# EAGLE library part MOUDLE-NEW_MOUDLE-GPS-L70-HARDWARE (library openautopihat)
L70 GPS module
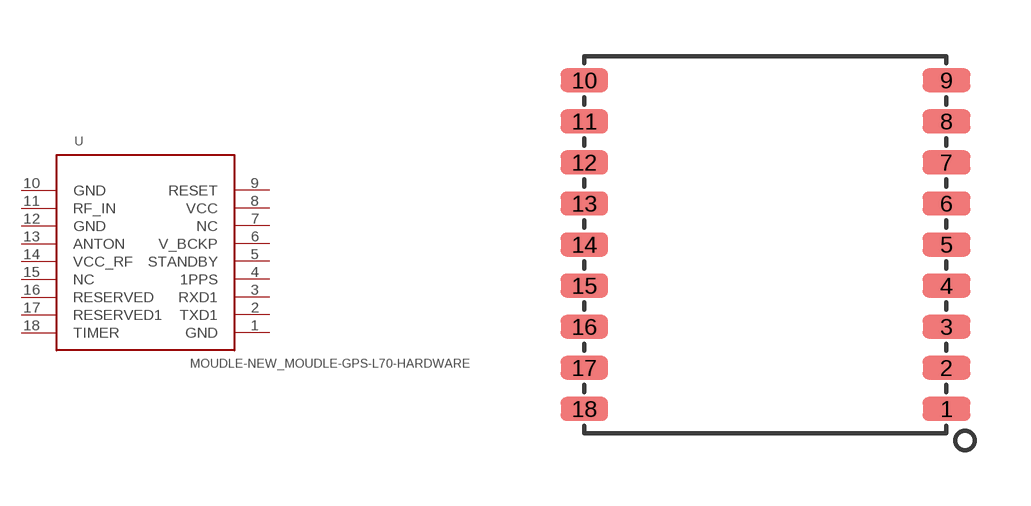
[diagram p7: symbol with the pads of MOUDLE-NEW_LGA18-1.1-9.7X10.1X2.5MM; footprint MOUDLE-NEW_LGA18-1.1-9.7X10.1X2.5MM]

Designator prefix U

## MOUDLE-NEW_MOUDLE-GPS-L70-HARDWARE (MPN: L70; VALUE: L70)  [MOUDLE-NEW_LGA18-1.1-9.7X10.1X2.5MM]
1  GND  sup
2  TXD1
3  RXD1
4  1PPS
5  STANDBY
6  V_BCKP
7  NC
8  VCC  pwr
9  RESET
10  GND  sup
11  RF_IN
12  GND
13  ANTON
14  VCC_RF  pwr
15  NC
16  RESERVED
17  RESERVED1
18  TIMER

## Footprint MOUDLE-NEW_LGA18-1.1-9.7X10.1X2.5MM (pad centres in mm)
smd 1.27 x 0.635: 1 4.85,-4.4; 2 4.85,-3.3; 3 4.85,-2.2; 4 4.85,-1.1; 5 4.85,0; 6 4.85,1.1; 7 4.85,2.2; 8 4.85,3.3; 9 4.85,4.4; 10 -4.85,4.4; 11 -4.85,3.3; 12 -4.85,2.2; 13 -4.85,1.1; 14 -4.85,0; 15 -4.85,-1.1; 16 -4.85,-2.2; 17 -4.85,-3.3; 18 -4.85,-4.4